# EAGLE library part HCPL2731S (library Kolja)
Mouser: 512-HCPL-2731S 1,46€
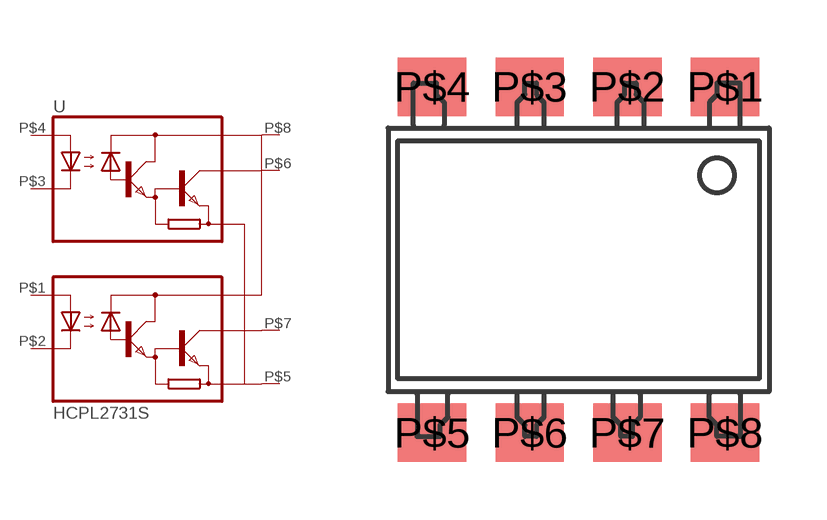
[diagram p10: symbol with the pads of HCPL2731S; footprint HCPL2731S]

Designator prefix -

## HCPL2731S  [HCPL2731S]
P$1  A1  pas
P$2  C1  pas
P$3  C2  pas
P$4  A2  pas
P$5  GND  pas
P$6  VO2  pas
P$7  VO1  pas
P$8  VCC1  pas

## Footprint HCPL2731S (pad centres in mm)
smd 1.78 x 1.52: P$1 3.81,4.505; P$2 1.27,4.505; P$3 -1.27,4.505; P$4 -3.81,4.505; P$5 -3.81,-4.505; P$6 -1.27,-4.505; P$7 1.27,-4.505; P$8 3.81,-4.505